# EAGLE library part LFH1056 (library GradeFreeEngineer)
Luxpia LFH1056
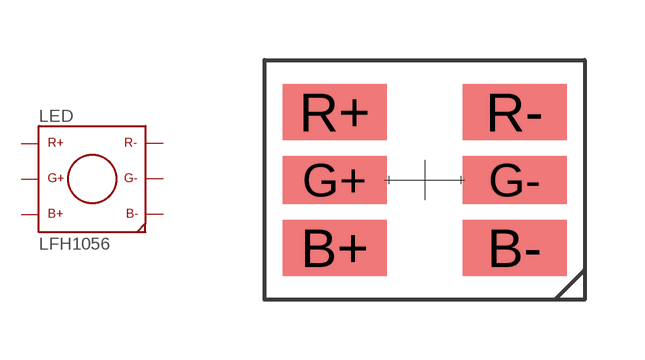
[diagram p1: symbol with the pads of LFH1056; footprint LFH1056]

Designator prefix LED

## LFH1056  [LFH1056]
B+  B+  in
B-  B-  in
G+  G+  in
G-  G-  in
R+  R+  in
R-  R-  in

## Footprint LFH1056 (pad centres in mm)
smd 2.6 x 1.4: B+ -2.25,-1.7; B- 2.25,-1.7; R+ -2.25,1.7; R- 2.25,1.7
smd 2.6 x 1.2: G+ -2.25,0; G- 2.25,0